# Altium schematic symbol library Extra-ECSESummer-Schematics.SchLib: 5 symbols
Pins are listed as number, name and electrical type; pins without a type are passive.

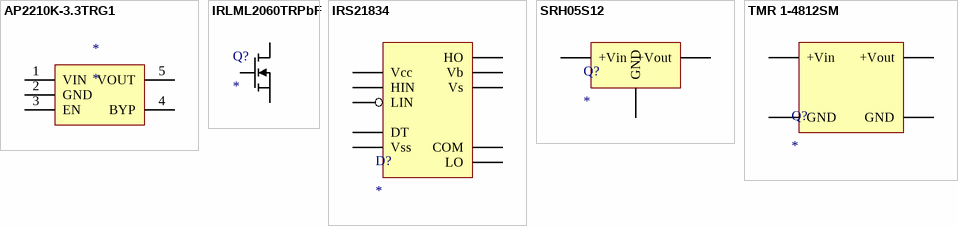
[diagram p0: symbols AP2210K-3.3TRG1 to TMR 1-4812SM]

## AP2210K-3.3TRG1
designator *
footprint AP2210K-3.3TRG1 SOT23-5 (SOT143-4 as used in AP2210K-3.3TRG1)
pins: 1 VIN, 2 GND, 3 EN, 4 BYP, 5 VOUT

## IRLML2060TRPbF
designator Q?
IRLML2060TRPbF N-Channel MOSFET; ComponentLink1Description: Datasheet; ComponentLink1URL: https://www.infineon.com/dgdl/irlml2060pbf.pdf?fileId=5546d462533600a401535664b7fb25ee
footprint IRLML2060TRPbF (IRLML2060TRPbF N-Channel MOSFET)
pins: 0 G, 1 D, 2 S

## IRS21834
designator D?
IRS21834 HALF-BRIDGE 600V FET DRIVER; ComponentLink1Description: Datasheet; ComponentLink1URL: https://www.infineon.com/dgdl/irs2183.pdf?fileId=5546d462533600a401535676d20c27d8
footprint IRS21834 (IRS21834 HALF-BRIDGE 600V FET DRIVER)
pins: 0 Vcc, 1 HIN, 2 LIN, 3 DT, 4 Vss, 5 LO, 6 COM, 7 Vs, 8 Vb, 9 HO

## SRH05S12
designator Q?
DC-DC Regulator 12V Out TH; ComponentLink1Description: Datasheet; ComponentLink1URL: https://www.xppower.com/portals/0/pdfs/SF_SRH05.pdf
footprint SRH05S12 (DC-DC Regulator 12V Out TH)
pins: 0 +Vin, 1 GND, 2 +Vout

## TMR 1-4812SM
designator Q?
DC-DC SM Regulator; ComponentLink1Description: Datasheet; ComponentLink1URL: https://www.tracopower.com/products/tmr1sm.pdf
footprint TMR 1-4812SM Footprint (Footprint for TMR 1-4812SM)
pins: 0 GND, 1 +Vin, 2 GND, 3 +Vout